# Altium footprint library 17-Relays.PcbLib: 68 footprints (part 3 of 5)
Each footprint in its own frame and in the unit in brackets; x right, y up, seen from the top. Pads: shape width x height; smd on the part's side, far side on the other; paste and mask are expansions set on the pad; w line width, h text height; cw(c..) or ccw(c..) is an arc to the next point about the centre after c.
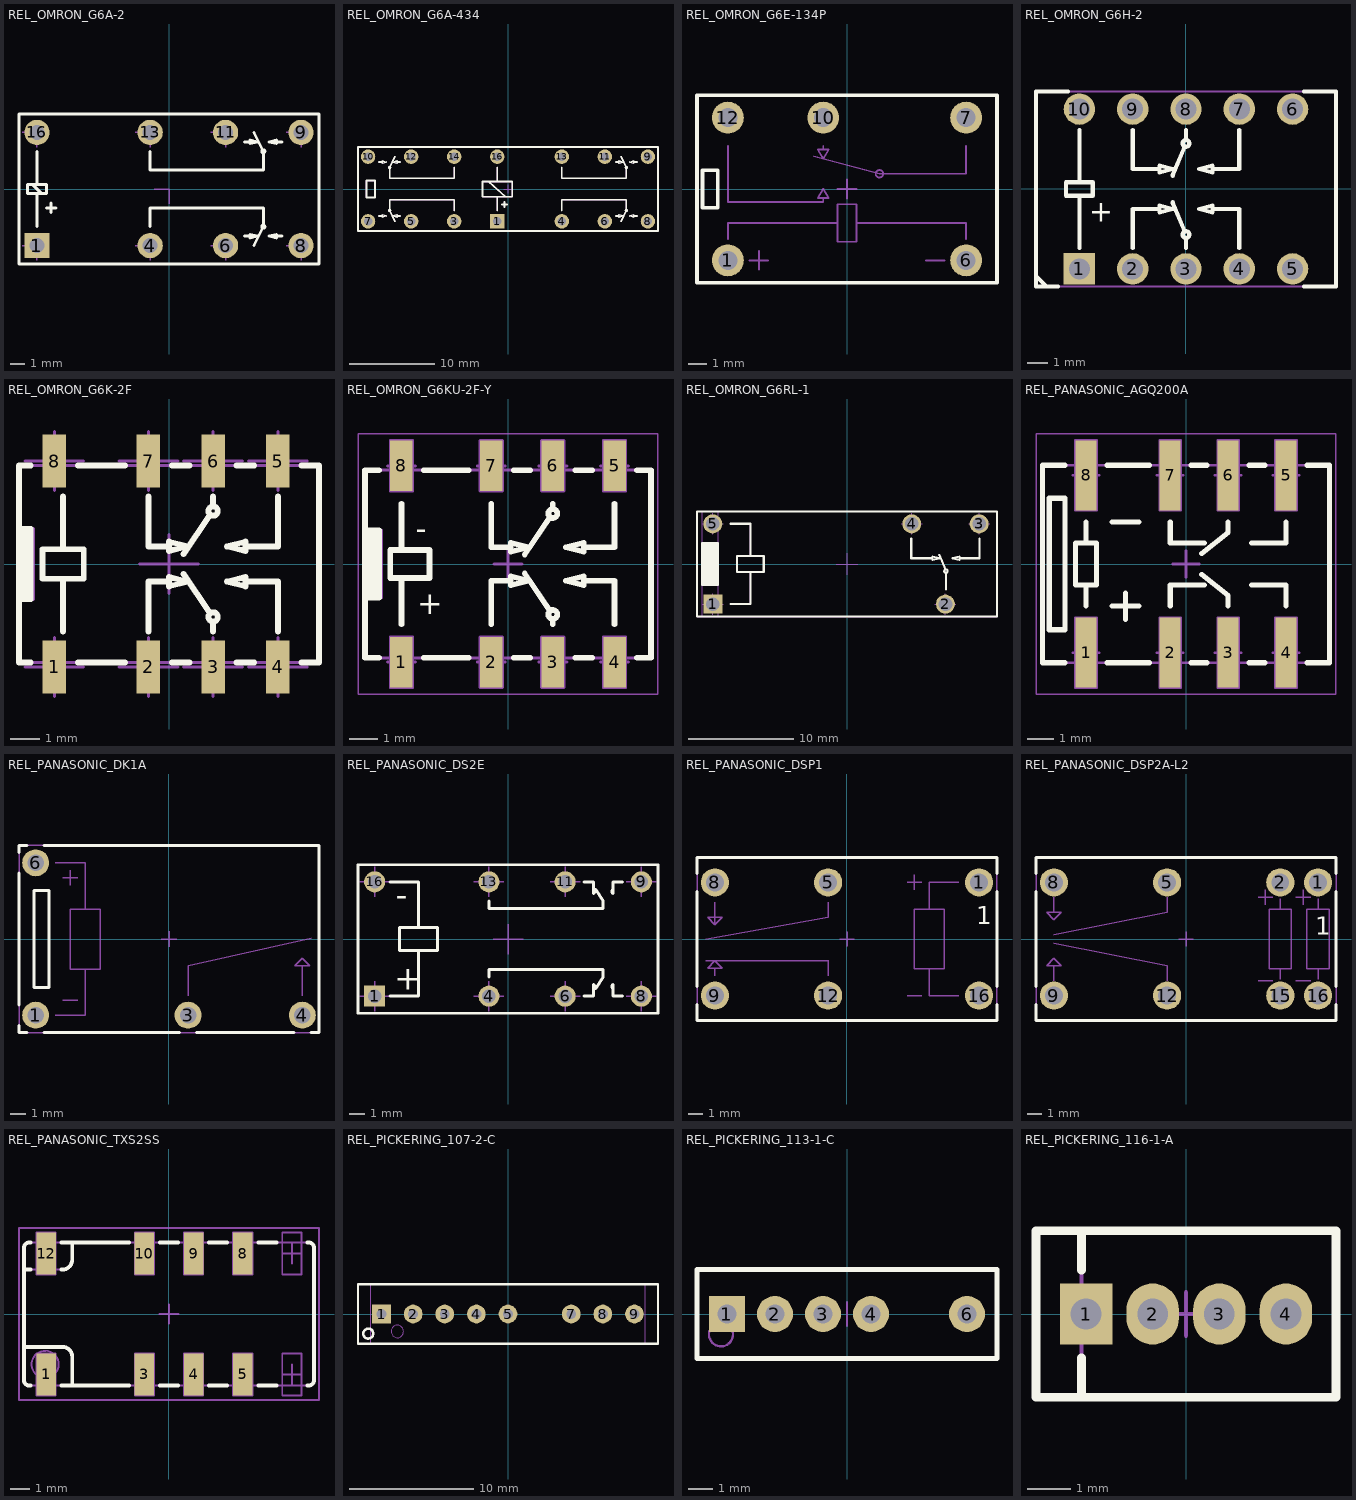
[diagram p2: the footprints below, top view; thin cyan lines are the x and y axes]

## REL_OMRON_G6A-2 [mm] "10 Leads, Row Spacing 7.62mm; Body 20.2mm x 10.1mm, OMRON_G6A-2 Serie"
height 8.4
pads (8):
  rect 1.7x1.7 hole 1: 1(-8.89,-3.81)
  round 1.7 hole 1: 4(-1.27,-3.81) 6(3.81,-3.81) 8(8.89,-3.81) 9(8.89,3.81) 11(3.81,3.81) 13(-1.27,3.81) 16(-8.89,3.81)
Top Overlay:
  circle w0.2: c6.35,2.54 r0.1
  circle w0.2: c6.35,-2.54 r0.1
  lines w0.2: -9.207,0.318 -8.572,-0.317 ; -8.89,-2.54 -8.89,-0.317 ; -8.89,0.318 -8.89,2.54 ; -8.255,-1.27 -7.62,-1.27 ; -7.938,-1.587 -7.938,-0.952 ; -1.27,-2.54 -1.27,-1.27 6.35,-1.27 6.35,-2.54 5.715,-3.81 ; -1.27,2.54 -1.27,1.27 6.35,1.27 6.35,2.54 5.715,3.81 ; 5.08,-3.175 5.465,-3.175 ; 5.08,3.175 5.465,3.175 ; 7.235,-3.175 7.62,-3.175 ; 7.235,3.175 7.62,3.175 ; -10.1,-5.05 -10.1,5.05 10.1,5.05 10.1,-5.05 -10.1,-5.05 ; -9.525,-0.317 -8.255,-0.317 -8.255,0.318 -9.525,0.318 -9.525,-0.317 ; 5.465,-3.3 5.965,-3.175 5.465,-3.05 5.465,-3.3 ; 5.465,3.05 5.465,3.3 5.965,3.175 5.465,3.05 ; 6.735,-3.175 7.235,-3.3 7.235,-3.05 6.735,-3.175 ; 6.735,3.175 7.235,3.3 7.235,3.05 6.735,3.175
Mechanical 8:
  lines w0.1: -9.89,-3.81 -8.89,-3.81 -8.89,-4.81 ; -9.89,3.81 -8.89,3.81 -8.89,2.81 ; -2.27,-3.81 -1.27,-3.81 -1.27,-4.81 ; -2.27,3.81 -1.27,3.81 -1.27,2.81 ; -1,0 0,0 0,-1 ; 2.81,-3.81 3.81,-3.81 3.81,-4.81 ; 2.81,3.81 3.81,3.81 3.81,2.81 ; 7.89,-3.81 8.89,-3.81 8.89,-4.81 ; 7.89,3.81 8.89,3.81 8.89,2.81 ; -9.19,-3.96 -9.19,-3.66 -8.59,-3.66 -8.59,-3.96 -9.19,-3.96 ; -9.19,3.66 -9.19,3.96 -8.59,3.96 -8.59,3.66 -9.19,3.66 ; -1.57,-3.96 -1.57,-3.66 -0.97,-3.66 -0.97,-3.96 -1.57,-3.96 ; -1.57,3.66 -1.57,3.96 -0.97,3.96 -0.97,3.66 -1.57,3.66 ; 3.51,-3.96 3.51,-3.66 4.11,-3.66 4.11,-3.96 3.51,-3.96 ; 3.51,3.66 3.51,3.96 4.11,3.96 4.11,3.66 3.51,3.66 ; 8.59,-3.96 8.59,-3.66 9.19,-3.66 9.19,-3.96 8.59,-3.96 ; 8.59,3.66 8.59,3.96 9.19,3.96 9.19,3.66 8.59,3.66
Mechanical 14:
  circle w0.1: c6.35,2.54 r0.1
  circle w0.1: c6.35,-2.54 r0.1
  lines w0.1: -9.207,0.318 -8.572,-0.317 ; -8.89,-2.54 -8.89,-0.317 ; -8.89,0.318 -8.89,2.54 ; -8.255,-1.27 -7.62,-1.27 ; -7.938,-1.587 -7.938,-0.952 ; -1.27,-2.54 -1.27,-1.27 6.35,-1.27 6.35,-2.54 5.715,-3.81 ; -1.27,2.54 -1.27,1.27 6.35,1.27 6.35,2.54 5.715,3.81 ; 5.08,-3.175 5.465,-3.175 ; 5.08,3.175 5.465,3.175 ; 7.235,-3.175 7.62,-3.175 ; 7.235,3.175 7.62,3.175 ; -10.1,-5.05 10.1,-5.05 10.1,5.05 -10.1,5.05 -10.1,-5.05 ; -9.525,-0.317 -8.255,-0.317 -8.255,0.318 -9.525,0.318 -9.525,-0.317 ; 5.465,-3.3 5.465,-3.05 5.965,-3.175 5.465,-3.3 ; 5.465,3.05 5.965,3.175 5.465,3.3 5.465,3.05 ; 6.735,-3.175 7.235,-3.05 7.235,-3.3 6.735,-3.175 ; 6.735,3.175 7.235,3.05 7.235,3.3 6.735,3.175
3D body "REL_OMRON_G6A-2.stp": height 8.4, standoff -3.16, extent -10.1,-5.05 10.1,5.05

## REL_OMRON_G6A-434 [mm] "14 Leads, Row Spacing 7.62mm; Body 35.4mm x 10.1mm, OMRON G6A-434 Case"
height 8.4
pads (14):
  rect 1.7x1.7 hole 1: 1(-1.27,-3.81)
  round 1.7 hole 1: 3(-6.35,-3.81) 4(6.35,-3.81) 5(-11.43,-3.81) 6(11.43,-3.81) 7(-16.51,-3.81) 8(16.51,-3.81) 9(16.51,3.81) 10(-16.51,3.81) 11(11.43,3.81) 12(-11.43,3.81) 13(6.35,3.81) 14(-6.35,3.81) 16(-1.27,3.81)
Top Overlay:
  circle w0.2: c-13.97,2.54 r0.1
  circle w0.2: c-13.97,-2.54 r0.1
  circle w0.2: c13.97,2.54 r0.1
  circle w0.2: c13.97,-2.54 r0.1
  lines w0.2: -15.24,-3.175 -14.855,-3.175 ; -15.24,3.175 -14.855,3.175 ; -13.335,-3.81 -13.97,-2.54 -13.97,-1.27 -6.35,-1.27 -6.35,-2.54 ; -13.335,3.81 -13.97,2.54 -13.97,1.27 -6.35,1.27 -6.35,2.54 ; -13.085,-3.175 -12.7,-3.175 ; -13.085,3.175 -12.7,3.175 ; -2.275,0.875 -0.289,-0.916 ; -1.27,-2.54 -1.27,-0.9 ; -1.27,0.875 -1.27,2.54 ; -0.735,-1.82 -0.1,-1.82 ; -0.417,-2.137 -0.417,-1.502 ; 6.35,-2.54 6.35,-1.27 13.97,-1.27 13.97,-2.54 13.335,-3.81 ; 6.35,2.54 6.35,1.27 13.97,1.27 13.97,2.54 13.335,3.81 ; 12.7,-3.175 13.085,-3.175 ; 12.7,3.175 13.085,3.175 ; 14.855,-3.175 15.24,-3.175 ; 14.855,3.175 15.24,3.175 ; -17.7,-4.95 17.7,-4.95 17.7,4.95 -17.7,4.95 -17.7,-4.95 ; -16.7,-1 -15.7,-1 -15.7,1 -16.7,1 -16.7,-1 ; -14.855,-3.3 -14.355,-3.175 -14.855,-3.05 -14.855,-3.3 ; -14.855,3.05 -14.855,3.3 -14.355,3.175 -14.855,3.05 ; -13.585,-3.175 -13.085,-3.3 -13.085,-3.05 -13.585,-3.175 ; -13.585,3.175 -13.085,3.3 -13.085,3.05 -13.585,3.175 ; -3,-0.9 0.5,-0.9 0.5,0.875 -3,0.875 -3,-0.9 ; 13.085,-3.3 13.585,-3.175 13.085,-3.05 13.085,-3.3 ; 13.085,3.05 13.085,3.3 13.585,3.175 13.085,3.05 ; 14.355,-3.175 14.855,-3.3 14.855,-3.05 14.355,-3.175 ; 14.355,3.175 14.855,3.3 14.855,3.05 14.355,3.175
Mechanical 8:
  lines w0.1: -17.01,-3.81 -16.51,-3.81 ; -17.01,3.81 -16.51,3.81 ; -16.51,-4.31 -16.51,-3.81 ; -16.51,-3.31 -16.51,-3.81 ; -16.51,3.31 -16.51,3.81 ; -16.51,4.31 -16.51,3.81 ; -16.01,-3.81 -16.51,-3.81 ; -16.01,3.81 -16.51,3.81 ; -11.93,-3.81 -11.43,-3.81 ; -11.93,3.81 -11.43,3.81 ; -11.43,-4.31 -11.43,-3.81 ; -11.43,-3.31 -11.43,-3.81 ; -11.43,3.31 -11.43,3.81 ; -11.43,4.31 -11.43,3.81 ; -10.93,-3.81 -11.43,-3.81 ; -10.93,3.81 -11.43,3.81 ; -6.85,-3.81 -6.35,-3.81 ; -6.85,3.81 -6.35,3.81 ; -6.35,-4.31 -6.35,-3.81 ; -6.35,-3.31 -6.35,-3.81 ; -6.35,3.31 -6.35,3.81 ; -6.35,4.31 -6.35,3.81 ; -5.85,-3.81 -6.35,-3.81 ; -5.85,3.81 -6.35,3.81 ; -1.77,-3.81 -1.27,-3.81 ; -1.77,3.81 -1.27,3.81 ; -1.27,-4.31 -1.27,-3.81 ; -1.27,-3.31 -1.27,-3.81 ; -1.27,3.31 -1.27,3.81 ; -1.27,4.31 -1.27,3.81 ; -0.77,-3.81 -1.27,-3.81 ; -0.77,3.81 -1.27,3.81 ; -0.5,0 0,0 ; 0,-0.5 0,0 ; 0,0.5 0,0 ; 0.5,0 0,0 ; 5.85,-3.81 6.35,-3.81 ; 5.85,3.81 6.35,3.81 ; 6.35,-4.31 6.35,-3.81 ; 6.35,-3.31 6.35,-3.81 ; 6.35,3.31 6.35,3.81 ; 6.35,4.31 6.35,3.81 ; 6.85,-3.81 6.35,-3.81 ; 6.85,3.81 6.35,3.81 ; 10.93,-3.81 11.43,-3.81 ; 10.93,3.81 11.43,3.81 ; 11.43,-4.31 11.43,-3.81 ; 11.43,-3.31 11.43,-3.81 ; 11.43,3.31 11.43,3.81 ; 11.43,4.31 11.43,3.81 ; 11.93,-3.81 11.43,-3.81 ; 11.93,3.81 11.43,3.81 ; 16.01,-3.81 16.51,-3.81 ; 16.01,3.81 16.51,3.81 ; 16.51,-4.31 16.51,-3.81 ; 16.51,-3.31 16.51,-3.81 ; 16.51,3.31 16.51,3.81 ; 16.51,4.31 16.51,3.81 ; 17.01,-3.81 16.51,-3.81 ; 17.01,3.81 16.51,3.81
Mechanical 14:
  circle w0.1: c13.97,-2.54 r0.1
  circle w0.1: c13.97,2.54 r0.1
  circle w0.1: c-13.97,-2.54 r0.1
  circle w0.1: c-13.97,2.54 r0.1
  lines w0.1: -15.24,-3.175 -14.855,-3.175 ; -15.24,3.175 -14.855,3.175 ; -13.335,-3.81 -13.97,-2.54 -13.97,-1.27 -6.35,-1.27 -6.35,-2.54 ; -13.335,3.81 -13.97,2.54 -13.97,1.27 -6.35,1.27 -6.35,2.54 ; -13.085,-3.175 -12.7,-3.175 ; -13.085,3.175 -12.7,3.175 ; -2.275,0.875 -0.289,-0.916 ; -1.27,-2.54 -1.27,-0.9 ; -1.27,0.875 -1.27,2.54 ; -0.735,-1.82 -0.1,-1.82 ; -0.417,-2.137 -0.417,-1.502 ; 6.35,-2.54 6.35,-1.27 13.97,-1.27 13.97,-2.54 13.335,-3.81 ; 6.35,2.54 6.35,1.27 13.97,1.27 13.97,2.54 13.335,3.81 ; 12.7,-3.175 13.085,-3.175 ; 12.7,3.175 13.085,3.175 ; 14.855,-3.175 15.24,-3.175 ; 14.855,3.175 15.24,3.175 ; -17.7,-4.95 17.7,-4.95 17.7,4.95 -17.7,4.95 -17.7,-4.95 ; -16.7,-1 -15.7,-1 -15.7,1 -16.7,1 -16.7,-1 ; -14.855,-3.3 -14.855,-3.05 -14.355,-3.175 -14.855,-3.3 ; -14.855,3.05 -14.355,3.175 -14.855,3.3 -14.855,3.05 ; -13.585,-3.175 -13.085,-3.05 -13.085,-3.3 -13.585,-3.175 ; -13.585,3.175 -13.085,3.05 -13.085,3.3 -13.585,3.175 ; -3,-0.9 -3,0.875 0.5,0.875 0.5,-0.9 -3,-0.9 ; 13.085,-3.3 13.085,-3.05 13.585,-3.175 13.085,-3.3 ; 13.085,3.05 13.585,3.175 13.085,3.3 13.085,3.05 ; 14.355,-3.175 14.855,-3.05 14.855,-3.3 14.355,-3.175 ; 14.355,3.175 14.855,3.05 14.855,3.3 14.355,3.175
3D body "REL_OMRON_G6A-434.stp": height 8.2, standoff -2.52, extent -17.7,-4.95 17.7,4.95

## REL_OMRON_G6E-134P [mm] "5 Leads, Row Spacing 7.62mm; Body 16mm x 10mm, OMRON G6E Serie"
height 8
pads (5):
  round 1.7 hole 1: 1(-6.35,-3.81) 6(6.35,-3.81) 7(6.35,3.81) 10(-1.27,3.81) 12(-6.35,3.81)
Top Overlay:
  lines w0.2: -8,-5 8,-5 8,5 -8,5 -8,-5 ; -7.7,-1 -6.9,-1 -6.9,1 -7.7,1 -7.7,-1
Mechanical 8:
  lines w0.1: -6.85,-3.81 -6.35,-3.81 ; -6.85,3.81 -6.35,3.81 ; -6.35,-4.31 -6.35,-3.81 ; -6.35,-3.31 -6.35,-3.81 ; -6.35,3.31 -6.35,3.81 ; -6.35,4.31 -6.35,3.81 ; -5.85,-3.81 -6.35,-3.81 ; -5.85,3.81 -6.35,3.81 ; -1.77,3.81 -1.27,3.81 ; -1.27,3.31 -1.27,3.81 ; -1.27,4.31 -1.27,3.81 ; -0.77,3.81 -1.27,3.81 ; -0.5,0 0,0 ; 0,-0.5 0,0 ; 0,0.5 0,0 ; 0.5,0 0,0 ; 5.85,-3.81 6.35,-3.81 ; 5.85,3.81 6.35,3.81 ; 6.35,-4.31 6.35,-3.81 ; 6.35,-3.31 6.35,-3.81 ; 6.35,3.31 6.35,3.81 ; 6.35,4.31 6.35,3.81 ; 6.85,-3.81 6.35,-3.81 ; 6.85,3.81 6.35,3.81
Mechanical 14:
  circle w0.1: c1.73,0.81 r0.2
  lines w0.1: -6.35,-2.66 -6.35,-1.81 -0.5,-1.81 ; -6.35,2.31 -6.35,-0.69 -1.27,-0.69 -1.27,-0.49 ; -5.2,-3.81 -4.7,-3.81 ; -4.7,-4.31 -4.7,-3.81 ; -4.7,-3.31 -4.7,-3.81 ; -4.2,-3.81 -4.7,-3.81 ; -1.772,1.744 1.73,0.81 6.35,0.81 6.35,2.31 ; -1.27,2.11 -1.27,2.31 ; 0.5,-1.81 6.35,-1.81 6.35,-2.66 ; 4.2,-3.81 5.2,-3.81 ; -8,-5 -8,5 8,5 8,-5 -8,-5 ; -7.7,-1 -6.9,-1 -6.9,1 -7.7,1 -7.7,-1 ; -1.559,-0.49 -0.981,-0.49 -1.27,0.01 -1.559,-0.49 ; -1.559,2.11 -0.981,2.11 -1.27,1.61 -1.559,2.11 ; -0.5,-2.81 0.5,-2.81 0.5,-0.81 -0.5,-0.81 -0.5,-2.81
3D body "REL_OMRON_G6E-134P.stp": height 8, standoff -3.5, extent -8,-5 8,5

## REL_OMRON_G6H-2 [mm] "10 Leads, Row Spacing 7.62 mm; Body 14.3mm x 9.3mm, OMRON_G6H-2 Serie"
height 5.4
pads (10):
  rect 1.5x1.5 hole 1: 1(-5.08,-3.81)
  round 1.5 hole 1: 2(-2.54,-3.81) 3(0,-3.81) 4(2.54,-3.81) 5(5.08,-3.81) 6(5.08,3.81) 7(2.54,3.81) 8(0,3.81) 9(-2.54,3.81) 10(-5.08,3.81)
Top Overlay:
  circle w0.2: c0,-2.175 r0.159
  circle w0.2: c0,2.175 r0.159
  lines w0.2: -7.15,-4.15 -6.65,-4.65 ; -6.096,-4.65 -7.15,-4.65 -7.15,4.65 -5.623,4.65 ; -5.08,-2.81 -5.08,-0.318 ; -5.08,0.318 -5.08,2.81 ; -2.54,-2.81 -2.54,-0.953 -1.27,-0.953 ; -2.54,2.81 -2.54,0.953 -1.27,0.953 ; -0.635,-0.635 -0.061,-2.028 ; -0.635,0.635 -0.061,2.028 ; 0,-2.81 0,-2.334 ; 0,2.334 0,2.81 ; 1.27,-0.953 2.54,-0.953 2.54,-2.81 ; 1.27,0.953 2.54,0.953 2.54,2.81 ; 5.623,-4.65 7.15,-4.65 7.15,4.65 5.623,4.65 ; -5.715,-0.318 -4.445,-0.318 -4.445,0.318 -5.715,0.318 -5.715,-0.318 ; -1.27,-1.111 -0.635,-0.953 -1.27,-0.794 -1.27,-1.111 ; -1.27,0.794 -0.635,0.953 -1.27,1.111 -1.27,0.794 ; 0.635,-0.953 1.27,-1.111 1.27,-0.794 0.635,-0.953 ; 0.635,0.953 1.27,1.111 1.27,0.794 0.635,0.953
  text "+" at -4.614,-1.558 h1
Mechanical 14:
  circle w0.1: c0,-2.175 r0.159
  circle w0.1: c0,2.175 r0.159
  lines w0.1: -5.08,-2.81 -5.08,-0.318 ; -5.08,0.318 -5.08,2.81 ; -2.54,-2.81 -2.54,-0.953 -1.27,-0.953 ; -2.54,2.81 -2.54,0.953 -1.27,0.953 ; -0.635,-0.635 -0.061,-2.028 ; -0.635,0.635 -0.061,2.028 ; 0,-2.81 0,-2.334 ; 0,2.334 0,2.81 ; 1.27,-0.953 2.54,-0.953 2.54,-2.81 ; 1.27,0.953 2.54,0.953 2.54,2.81 ; -7.15,-4.65 -7.15,4.65 7.15,4.65 7.15,-4.65 -7.15,-4.65 ; -5.715,-0.318 -4.445,-0.318 -4.445,0.318 -5.715,0.318 -5.715,-0.318 ; -1.27,-1.111 -0.635,-0.953 -1.27,-0.794 -1.27,-1.111 ; -1.27,0.794 -0.635,0.953 -1.27,1.111 -1.27,0.794 ; 0.635,-0.953 1.27,-1.111 1.27,-0.794 0.635,-0.953 ; 0.635,0.953 1.27,1.111 1.27,0.794 0.635,0.953
  text "+" at -4.614,-1.558 h1
3D body "REL_OMRON_G6H-2.stp": height 5.4, standoff -3.5, extent -7.15,-4.65 7.15,4.65
3D body: height 0, standoff -3.1, extent -5.33,-3.935 -4.83,-3.685
3D body: height 0, standoff -3.1, extent -2.79,-3.935 -2.29,-3.685
3D body: height 0, standoff -3.1, extent -0.25,-3.935 0.25,-3.685
3D body: height 0, standoff -3.1, extent 2.29,-3.935 2.79,-3.685
3D body: height 0, standoff -3.1, extent 4.83,-3.935 5.33,-3.685
3D body: height 0, standoff -3.1, extent 4.83,3.685 5.33,3.935
3D body: height 0, standoff -3.1, extent 2.29,3.685 2.79,3.935
3D body: height 0, standoff -3.1, extent -0.25,3.685 0.25,3.935
3D body: height 0, standoff -3.1, extent -2.79,3.685 -2.29,3.935
3D body: height 0, standoff -3.1, extent -5.33,3.685 -4.83,3.935

## REL_OMRON_G6K-2F [mm] "SMD Relay,  Body 10.2mm x 6.7mm, OMRON_G6K-2F"
height 5.4
pads (8):
  rect 0.8x1.8 smd: 1(-3.9,-3.5) 2(-0.7,-3.5) 3(1.5,-3.5) 4(3.7,-3.5) 5(3.7,3.5) 6(1.5,3.5) 7(-0.7,3.5) 8(-3.9,3.5)
Top Overlay:
  circle w0.2: c1.5,-1.8 r0.159
  circle w0.2: c1.5,1.8 r0.159
  lines w0.2: -5.1,-1.2 -4.7,-1.2 -4.7,1.2 -5.1,1.2 ; -5,-1.2 -5,1.2 ; -4.9,-1.2 -4.9,1.2 ; -4.8,-1.2 -4.8,1.2 ; -4.7,-3.35 -5.1,-3.35 -5.1,3.35 -4.7,3.35 ; -3.6,-2.3 -3.6,-0.5 ; -3.6,0.5 -3.6,2.3 ; -3.1,-3.35 -1.5,-3.35 ; -3.1,3.35 -1.5,3.35 ; -0.7,-2.3 -0.7,-0.6 0,-0.6 ; -0.7,2.3 -0.7,0.6 0,0.6 ; 0.1,-3.35 0.7,-3.35 ; 0.1,3.35 0.7,3.35 ; 0.493,-0.338 1.4,-1.675 ; 0.493,0.338 1.4,1.675 ; 1.5,-2.3 1.5,-2 ; 1.5,2 1.5,2.3 ; 2.3,-3.35 2.9,-3.35 ; 2.3,3.35 2.9,3.35 ; 2.6,-0.6 3.7,-0.6 3.7,-2.3 ; 2.6,0.6 3.7,0.6 3.7,2.3 ; 4.5,-3.35 5.1,-3.35 5.1,3.35 4.5,3.35 ; -4.3,-0.5 -2.9,-0.5 -2.9,0.5 -4.3,0.5 -4.3,-0.5 ; 0,-0.759 0,-0.441 0.635,-0.6 0,-0.759 ; 0,0.441 0.635,0.6 0,0.759 0,0.441 ; 1.965,-0.6 2.6,-0.441 2.6,-0.759 1.965,-0.6 ; 1.965,0.6 2.6,0.759 2.6,0.441 1.965,0.6
Mechanical 8:
  lines w0.1: -4.9,-3.5 -3.9,-3.5 ; -4.9,3.5 -3.9,3.5 ; -3.9,-4.5 -3.9,-3.5 ; -3.9,-2.5 -3.9,-3.5 ; -3.9,2.5 -3.9,3.5 ; -3.9,4.5 -3.9,3.5 ; -2.9,-3.5 -3.9,-3.5 ; -2.9,3.5 -3.9,3.5 ; -1.7,-3.5 -0.7,-3.5 ; -1.7,3.5 -0.7,3.5 ; -1,0 0,0 ; -0.7,-4.5 -0.7,-3.5 ; -0.7,-2.5 -0.7,-3.5 ; -0.7,2.5 -0.7,3.5 ; -0.7,4.5 -0.7,3.5 ; 0,-1 0,0 ; 0,1 0,0 ; 0.3,-3.5 -0.7,-3.5 ; 0.3,3.5 -0.7,3.5 ; 0.5,-3.5 1.5,-3.5 ; 0.5,3.5 1.5,3.5 ; 1,0 0,0 ; 1.5,-4.5 1.5,-3.5 ; 1.5,-2.5 1.5,-3.5 ; 1.5,2.5 1.5,3.5 ; 1.5,4.5 1.5,3.5 ; 2.5,-3.5 1.5,-3.5 ; 2.5,3.5 1.5,3.5 ; 2.7,-3.5 3.7,-3.5 ; 2.7,3.5 3.7,3.5 ; 3.7,-4.5 3.7,-3.5 ; 3.7,-2.5 3.7,-3.5 ; 3.7,2.5 3.7,3.5 ; 3.7,4.5 3.7,3.5 ; 4.7,-3.5 3.7,-3.5 ; 4.7,3.5 3.7,3.5
Mechanical 14:
  circle w0.1: c1.5,-1.8 r0.159
  circle w0.1: c1.5,1.8 r0.159
  lines w0.1: -5.1,-1.2 -4.6,-1.2 -4.6,1.2 -5.1,1.2 ; -5,-1.2 -5,1.2 ; -4.9,-1.2 -4.9,1.2 ; -4.8,-1.2 -4.8,1.2 ; -4.7,-1.2 -4.7,1.2 ; -3.6,-2.3 -3.6,-0.5 ; -3.6,0.5 -3.6,2.3 ; -0.7,-2.3 -0.7,-0.6 0,-0.6 ; -0.7,2.3 -0.7,0.6 0,0.6 ; 0.493,-0.338 1.4,-1.675 ; 0.493,0.338 1.4,1.675 ; 1.5,-2.3 1.5,-2 ; 1.5,2 1.5,2.3 ; 2.6,-0.6 3.7,-0.6 3.7,-2.3 ; 2.6,0.6 3.7,0.6 3.7,2.3 ; -5.1,-3.35 5.1,-3.35 5.1,3.35 -5.1,3.35 -5.1,-3.35 ; -4.3,-0.5 -2.9,-0.5 -2.9,0.5 -4.3,0.5 -4.3,-0.5 ; 0,-0.759 0,-0.441 0.635,-0.6 0,-0.759 ; 0,0.441 0.635,0.6 0,0.759 0,0.441 ; 1.965,-0.6 2.6,-0.441 2.6,-0.759 1.965,-0.6 ; 1.965,0.6 2.6,0.759 2.6,0.441 1.965,0.6
3D body "REL_OMRON_G6K-2F.stp": height 5.4, standoff 0, extent -5.1,-3.9 5.1,3.9

## REL_OMRON_G6KU-2F-Y [mm] "SMD Relay,  Body 10.2mm x 6.7mm, OMRON_G6KU-2F-Y"
height 5.4
pads (8):
  rect 0.8x1.8 smd: 1(-3.8,-3.5) 2(-0.6,-3.5) 3(1.6,-3.5) 4(3.8,-3.5) 5(3.8,3.5) 6(1.6,3.5) 7(-0.6,3.5) 8(-3.8,3.5)
Top Overlay:
  circle w0.2: c1.6,-1.8 r0.159
  circle w0.2: c1.6,1.8 r0.159
  lines w0.2: -5,-1.2 -4.6,-1.2 -4.6,1.2 -5,1.2 ; -4.9,-1.2 -4.9,1.2 ; -4.8,-1.2 -4.8,1.2 ; -4.7,-1.2 -4.7,1.2 ; -4.6,-3.35 -5.1,-3.35 -5.1,3.35 -4.6,3.35 ; -3.8,-2.15 -3.8,-0.6 ; -3.8,0.6 -3.8,2.15 ; -3,-3.35 -1.4,-3.35 ; -3,3.35 -1.4,3.35 ; -0.6,-2.15 -0.6,-0.6 0.1,-0.6 ; -0.6,2.15 -0.6,0.6 0.1,0.6 ; 0.2,-3.35 0.8,-3.35 ; 0.2,3.35 0.8,3.35 ; 0.593,-0.338 1.5,-1.675 ; 0.593,0.338 1.5,1.675 ; 1.6,-2.15 1.6,-2 ; 1.6,2 1.6,2.15 ; 2.4,-3.35 3,-3.35 ; 2.4,3.35 3,3.35 ; 2.7,-0.6 3.8,-0.6 3.8,-2.15 ; 2.7,0.6 3.8,0.6 3.8,2.15 ; 4.6,-3.35 5.1,-3.35 5.1,3.35 4.6,3.35 ; -4.2,-0.5 -2.8,-0.5 -2.8,0.5 -4.2,0.5 -4.2,-0.5 ; 0.1,-0.759 0.1,-0.441 0.735,-0.6 0.1,-0.759 ; 0.1,0.441 0.735,0.6 0.1,0.759 0.1,0.441 ; 2.065,-0.6 2.7,-0.441 2.7,-0.759 2.065,-0.6 ; 2.065,0.6 2.7,0.759 2.7,0.441 2.065,0.6
  text "+" at -3.234,-1.785 h0.8
  text "-" at -3.284,0.89 h0.8
Mechanical 8:
  lines w0.1: -4.3,-3.5 -3.8,-3.5 ; -4.3,3.5 -3.8,3.5 ; -3.8,-4 -3.8,-3.5 ; -3.8,-3 -3.8,-3.5 ; -3.8,3 -3.8,3.5 ; -3.8,4 -3.8,3.5 ; -3.3,-3.5 -3.8,-3.5 ; -3.3,3.5 -3.8,3.5 ; -1.1,-3.5 -0.6,-3.5 ; -1.1,3.5 -0.6,3.5 ; -0.6,-4 -0.6,-3.5 ; -0.6,-3 -0.6,-3.5 ; -0.6,3 -0.6,3.5 ; -0.6,4 -0.6,3.5 ; -0.5,0 0,0 ; -0.1,-3.5 -0.6,-3.5 ; -0.1,3.5 -0.6,3.5 ; 0,-0.5 0,0 ; 0,0.5 0,0 ; 0.5,0 0,0 ; 1.1,-3.5 1.6,-3.5 ; 1.1,3.5 1.6,3.5 ; 1.6,-4 1.6,-3.5 ; 1.6,-3 1.6,-3.5 ; 1.6,3 1.6,3.5 ; 1.6,4 1.6,3.5 ; 2.1,-3.5 1.6,-3.5 ; 2.1,3.5 1.6,3.5 ; 3.3,-3.5 3.8,-3.5 ; 3.3,3.5 3.8,3.5 ; 3.8,-4 3.8,-3.5 ; 3.8,-3 3.8,-3.5 ; 3.8,3 3.8,3.5 ; 3.8,4 3.8,3.5 ; 4.3,-3.5 3.8,-3.5 ; 4.3,3.5 3.8,3.5 ; -4.2,-4.4 -3.4,-4.4 -3.4,-2.6 -4.2,-2.6 -4.2,-4.4 ; -4.2,2.6 -3.4,2.6 -3.4,4.4 -4.2,4.4 -4.2,2.6 ; -1,-4.4 -0.2,-4.4 -0.2,-2.6 -1,-2.6 -1,-4.4 ; -1,2.6 -0.2,2.6 -0.2,4.4 -1,4.4 -1,2.6 ; 1.2,-4.4 2,-4.4 2,-2.6 1.2,-2.6 1.2,-4.4 ; 1.2,2.6 2,2.6 2,4.4 1.2,4.4 1.2,2.6 ; 3.4,-4.4 4.2,-4.4 4.2,-2.6 3.4,-2.6 3.4,-4.4 ; 3.4,2.6 4.2,2.6 4.2,4.4 3.4,4.4 3.4,2.6
Mechanical 14:
  circle w0.1: c1.6,-1.8 r0.159
  circle w0.1: c1.6,1.8 r0.159
  lines w0.1: -5,-1.2 -4.5,-1.2 -4.5,1.2 -5,1.2 ; -4.9,-1.2 -4.9,1.2 ; -4.8,-1.2 -4.8,1.2 ; -4.7,-1.2 -4.7,1.2 ; -4.6,-1.2 -4.6,1.2 ; -3.8,-2.15 -3.8,-0.6 ; -3.8,0.6 -3.8,2.15 ; -0.6,-2.15 -0.6,-0.6 0.1,-0.6 ; -0.6,2.15 -0.6,0.6 0.1,0.6 ; 0.593,-0.338 1.5,-1.675 ; 0.593,0.338 1.5,1.675 ; 1.6,-2.15 1.6,-2 ; 1.6,2 1.6,2.15 ; 2.7,-0.6 3.8,-0.6 3.8,-2.15 ; 2.7,0.6 3.8,0.6 3.8,2.15 ; -5.1,-3.35 5.1,-3.35 5.1,3.35 -5.1,3.35 -5.1,-3.35 ; -4.2,-0.5 -2.8,-0.5 -2.8,0.5 -4.2,0.5 -4.2,-0.5 ; 0.1,-0.759 0.1,-0.441 0.735,-0.6 0.1,-0.759 ; 0.1,0.441 0.735,0.6 0.1,0.759 0.1,0.441 ; 2.065,-0.6 2.7,-0.441 2.7,-0.759 2.065,-0.6 ; 2.065,0.6 2.7,0.759 2.7,0.441 2.065,0.6
  text "+" at -3.234,-1.785 h0.8
  text "-" at -3.284,0.89 h0.8
Mechanical 15:
  lines w0.05: -5.35,-4.65 -5.35,4.65 5.35,4.65 5.35,-4.65 -5.35,-4.65
3D body "REL_OMRON_G6KU-2F-Y.stp": height 5.4, standoff 0, extent -5.1,-3.9 5.1,3.9

## REL_OMRON_G6RL-1 [mm] "5 Leads, Row Spacing 7.62 mm; Body 28.5mm x 10mm, OMRON_G6RL-1 Serie"
height 12.3
pads (5):
  rect 1.8x1.8 hole 1.3: 1(-12.75,-3.81)
  round 1.8 hole 1.3: 2(9.35,-3.81) 3(12.55,3.81) 4(6.15,3.81) 5(-12.75,3.81)
Top Overlay:
  circle w0.2: c9.4,-0.675 r0.159
  lines w0.2: -13.55,-2 -13.55,2 ; -13.35,-2 -13.35,2 ; -13.15,-2 -13.15,2 ; -12.95,-2 -12.95,2 ; -12.75,-2 -12.75,2 ; -12.55,-2 -12.55,2 ; -12.35,-2 -12.35,2 ; -11.084,-3.8 -9.179,-3.8 -9.179,-0.752 ; -11.084,3.82 -9.179,3.82 -9.179,0.772 ; 6.1,2.4 6.1,0.547 8.13,0.547 ; 8.765,0.865 9.339,-0.528 ; 9.4,-2.4 9.4,-0.834 ; 10.67,0.547 12.6,0.547 12.6,2.4 ; -14.25,-5 -14.25,5 14.25,5 14.25,-5 -14.25,-5 ; -13.75,-2 -12.25,-2 -12.25,2 -13.75,2 -13.75,-2 ; -10.449,-0.752 -10.449,0.772 -7.909,0.772 -7.909,-0.752 -10.449,-0.752 ; 8.13,0.389 8.13,0.706 8.765,0.547 8.13,0.389 ; 10.035,0.547 10.67,0.389 10.67,0.706 10.035,0.547
Mechanical 8:
  lines w0.1: -13.75,-3.81 -12.75,-3.81 ; -13.75,3.81 -12.75,3.81 ; -12.75,-4.81 -12.75,-3.81 ; -12.75,-2.81 -12.75,-3.81 ; -12.75,2.81 -12.75,3.81 ; -12.75,4.81 -12.75,3.81 ; -11.75,-3.81 -12.75,-3.81 ; -11.75,3.81 -12.75,3.81 ; -1,0 0,0 ; 0,-1 0,0 ; 0,1 0,0 ; 1,0 0,0 ; 5.15,3.81 6.15,3.81 ; 6.15,2.81 6.15,3.81 ; 6.15,4.81 6.15,3.81 ; 7.15,3.81 6.15,3.81 ; 8.35,-3.81 9.35,-3.81 ; 9.35,-4.81 9.35,-3.81 ; 9.35,-2.81 9.35,-3.81 ; 10.35,-3.81 9.35,-3.81 ; 11.55,3.81 12.55,3.81 ; 12.55,2.81 12.55,3.81 ; 12.55,4.81 12.55,3.81 ; 13.55,3.81 12.55,3.81
Mechanical 14:
  lines w0.1: -13.75,-5 -13.75,5 ; -12.25,-5 -12.25,5 ; -11.084,-3.8 -9.179,-3.8 -9.179,-0.752 ; -11.084,3.82 -9.179,3.82 -9.179,0.772 ; -14.25,-5 -14.25,5 14.25,5 14.25,-5 -14.25,-5 ; -10.449,-0.752 -10.449,0.772 -7.909,0.772 -7.909,-0.752 -10.449,-0.752
3D body "REL_OMRON_G6RL-1.stp": height 12.3, standoff -3.2, extent -14.25,-5 14.25,5

## REL_PANASONIC_AGQ200A [mm] "8 Leads Single Side Stable Relay,PANASONIC GQ Serie, Body 10.6mm x 7.2mm"
height 5.4
pads (8):
  rect 0.8x2.66 smd: 1(-3.8,-3.37) 2(-0.6,-3.37) 3(1.6,-3.37) 4(3.8,-3.37) 5(3.8,3.37) 6(1.6,3.37) 7(-0.6,3.37) 8(-3.8,3.37)
Top Overlay:
  lines w0.2: -4.6,-3.75 -5.45,-3.75 -5.45,3.75 -4.6,3.75 ; -3.8,-1.6 -3.8,-0.8 ; -3.8,0.8 -3.8,1.6 ; -3,-3.75 -1.4,-3.75 ; -3,3.75 -1.4,3.75 ; -2.8,-1.6 -1.8,-1.6 ; -2.8,1.6 -1.8,1.6 ; -2.3,-2.1 -2.3,-1.1 ; -0.6,-1.6 -0.6,-0.8 0.7,-0.8 ; -0.6,1.6 -0.6,0.8 0.7,0.8 ; 0.2,-3.75 0.8,-3.75 ; 0.2,3.75 0.8,3.75 ; 0.6,-0.4 1.6,-1.2 1.6,-1.6 ; 0.6,0.4 1.6,1.2 1.6,1.6 ; 2.4,-3.75 3,-3.75 ; 2.4,3.75 3,3.75 ; 2.5,-0.8 3.8,-0.8 3.8,-1.6 ; 2.5,0.8 3.8,0.8 3.8,1.6 ; 4.6,-3.75 5.45,-3.75 5.45,3.75 4.6,3.75 ; -5.2,-2.5 -5.2,2.5 -4.6,2.5 -4.6,-2.5 -5.2,-2.5 ; -4.2,-0.8 -3.4,-0.8 -3.4,0.8 -4.2,0.8 -4.2,-0.8
Mechanical 8:
  lines w0.1: -4.3,-3.37 -3.8,-3.37 ; -4.3,3.37 -3.8,3.37 ; -3.8,-3.87 -3.8,-3.37 ; -3.8,-2.87 -3.8,-3.37 ; -3.8,2.87 -3.8,3.37 ; -3.8,3.87 -3.8,3.37 ; -3.3,-3.37 -3.8,-3.37 ; -3.3,3.37 -3.8,3.37 ; -1.1,-3.37 -0.6,-3.37 ; -1.1,3.37 -0.6,3.37 ; -0.6,-3.87 -0.6,-3.37 ; -0.6,-2.87 -0.6,-3.37 ; -0.6,2.87 -0.6,3.37 ; -0.6,3.87 -0.6,3.37 ; -0.5,0 0,0 ; -0.1,-3.37 -0.6,-3.37 ; -0.1,3.37 -0.6,3.37 ; 0,-0.5 0,0 ; 0,0.5 0,0 ; 0.5,0 0,0 ; 1.1,-3.37 1.6,-3.37 ; 1.1,3.37 1.6,3.37 ; 1.6,-3.87 1.6,-3.37 ; 1.6,-2.87 1.6,-3.37 ; 1.6,2.87 1.6,3.37 ; 1.6,3.87 1.6,3.37 ; 2.1,-3.37 1.6,-3.37 ; 2.1,3.37 1.6,3.37 ; 3.3,-3.37 3.8,-3.37 ; 3.3,3.37 3.8,3.37 ; 3.8,-3.87 3.8,-3.37 ; 3.8,-2.87 3.8,-3.37 ; 3.8,2.87 3.8,3.37 ; 3.8,3.87 3.8,3.37 ; 4.3,-3.37 3.8,-3.37 ; 4.3,3.37 3.8,3.37 ; -4.2,-4.7 -4.2,-2.04 -3.4,-2.04 -3.4,-4.7 -4.2,-4.7 ; -4.2,2.04 -4.2,4.7 -3.4,4.7 -3.4,2.04 -4.2,2.04 ; -1,-4.7 -1,-2.04 -0.2,-2.04 -0.2,-4.7 -1,-4.7 ; -1,2.04 -1,4.7 -0.2,4.7 -0.2,2.04 -1,2.04 ; 1.2,-4.7 1.2,-2.04 2,-2.04 2,-4.7 1.2,-4.7 ; 1.2,2.04 1.2,4.7 2,4.7 2,2.04 1.2,2.04 ; 3.4,-4.7 3.4,-2.04 4.2,-2.04 4.2,-4.7 3.4,-4.7 ; 3.4,2.04 3.4,4.7 4.2,4.7 4.2,2.04 3.4,2.04
Mechanical 14:
  lines w0.1: -3.8,-1.6 -3.8,-0.8 ; -3.8,0.8 -3.8,1.6 ; -2.8,-1.6 -1.8,-1.6 ; -2.8,1.6 -1.8,1.6 ; -2.3,-2.1 -2.3,-1.1 ; -0.6,-1.6 -0.6,-0.8 0.7,-0.8 ; -0.6,1.6 -0.6,0.8 0.7,0.8 ; 0.6,-0.4 1.6,-1.2 1.6,-1.6 ; 0.6,0.4 1.6,1.2 1.6,1.6 ; 2.5,-0.8 3.8,-0.8 3.8,-1.6 ; 2.5,0.8 3.8,0.8 3.8,1.6 ; -5.45,-3.75 5.45,-3.75 5.45,3.75 -5.45,3.75 -5.45,-3.75 ; -5.2,-2.5 -5.2,2.5 -4.6,2.5 -4.6,-2.5 -5.2,-2.5 ; -4.2,-0.8 -4.2,0.8 -3.4,0.8 -3.4,-0.8 -4.2,-0.8
Mechanical 15:
  lines w0.05: -5.7,-4.95 -5.7,4.95 5.7,4.95 5.7,-4.95 -5.7,-4.95
3D body "REL_PANASONIC_AGQ200A.stp": height 5.4, standoff 0, extent -5.45,-4.364 5.45,4.364

## REL_PANASONIC_DK1A [mm] "4 Leads Single Side Stable Relay,PANASONIC DK Serie, Body 20mm x 12.5mm"
height 10
pads (4):
  round 1.8 hole 1.1: 1(-8.89,-5.08) 3(1.27,-5.08) 4(8.89,-5.08) 6(-8.89,5.08)
Top Overlay:
  lines w0.2: -10,-5.757 -10,-6.25 -9.457,-6.25 ; -10,-4.403 -10,4.403 ; -10,5.757 -10,6.25 -9.457,6.25 ; -8.323,-6.25 0.703,-6.25 ; -8.323,6.25 10,6.25 10,-6.25 9.457,-6.25 ; 1.837,-6.25 8.323,-6.25 ; -9,-3.25 -9,3.25 -8,3.25 -8,-3.25 -9,-3.25
Mechanical 8:
  lines w0.1: -9.39,-5.08 -8.89,-5.08 ; -9.39,5.08 -8.89,5.08 ; -8.89,-5.58 -8.89,-5.08 ; -8.89,-4.58 -8.89,-5.08 ; -8.89,4.58 -8.89,5.08 ; -8.89,5.58 -8.89,5.08 ; -8.39,-5.08 -8.89,-5.08 ; -8.39,5.08 -8.89,5.08 ; -0.5,0 0,0 ; 0,-0.5 0,0 ; 0,0.5 0,0 ; 0.5,0 0,0 ; 0.77,-5.08 1.27,-5.08 ; 1.27,-5.58 1.27,-5.08 ; 1.27,-4.58 1.27,-5.08 ; 1.77,-5.08 1.27,-5.08 ; 8.39,-5.08 8.89,-5.08 ; 8.89,-5.58 8.89,-5.08 ; 8.89,-4.58 8.89,-5.08 ; 9.39,-5.08 8.89,-5.08
Mechanical 14:
  lines w0.1: -8.89,-6.25 -2.54,-6.25 ; -7.59,-5.08 -5.59,-5.08 -5.59,-2 ; -7.59,5.08 -5.59,5.08 -5.59,2 ; -7.09,-4.08 -6.09,-4.08 ; -7.09,4.08 -6.09,4.08 ; -6.59,3.58 -6.59,4.58 ; 1.27,-3.78 1.27,-1.78 9.473,0.066 ; 8.89,-3.78 8.89,-1.78 ; -10,-6.25 10,-6.25 10,6.25 -10,6.25 -10,-6.25 ; -9,-3.25 -9,3.25 -8,3.25 -8,-3.25 -9,-3.25 ; -6.59,-2 -6.59,2 -4.59,2 -4.59,-2 -6.59,-2 ; 8.39,-1.78 8.89,-1.28 9.39,-1.78 8.39,-1.78
3D body "REL_PANASONIC_DK1A.stp": height 10, standoff -3.5, extent -10,-6.25 10,6.25

## REL_PANASONIC_DS2E [mm] "8 Leads Single Side Stable Relay,PANASONIC DS Serie, Body 20mm x 9.9mm"
height 9.9
pads (8):
  rect 1.4x1.4 hole 0.9: 1(-8.89,-3.81)
  round 1.4 hole 0.9: 4(-1.27,-3.81) 6(3.81,-3.81) 8(8.89,-3.81) 9(8.89,3.81) 11(3.81,3.81) 13(-1.27,3.81) 16(-8.89,3.81)
Top Overlay:
  lines w0.2: -7.874,-3.81 -5.969,-3.81 -5.969,-0.762 ; -7.874,3.81 -5.969,3.81 -5.969,0.762 ; -1.27,-2.54 -1.27,-2.032 6.35,-2.032 6.35,-2.54 5.842,-3.302 ; -1.27,2.54 -1.27,2.032 6.35,2.032 6.35,2.54 5.842,3.302 ; 5.08,-3.81 5.715,-3.81 5.715,-3.048 cw(c5.588,-3.175) 5.715,-3.302 ; 5.08,3.81 5.715,3.81 5.715,3.048 ccw(c5.588,3.175) 5.715,3.302 ; 6.985,-3.302 cw(c7.112,-3.175) 6.985,-3.048 6.985,-3.81 7.62,-3.81 ; 6.985,3.302 ccw(c7.112,3.175) 6.985,3.048 6.985,3.81 7.62,3.81 ; -10,-4.95 10,-4.95 10,4.95 -10,4.95 -10,-4.95 ; -7.239,-0.762 -4.699,-0.762 -4.699,0.762 -7.239,0.762 -7.239,-0.762
  text "+" at -7.6,-3.4 h1.6
  text "-" at -7.5,2.2 h1.6
Mechanical 8:
  lines w0.1: -9.89,-3.81 -8.89,-3.81 ; -9.89,3.81 -8.89,3.81 ; -8.89,-4.81 -8.89,-3.81 ; -8.89,-2.81 -8.89,-3.81 ; -8.89,2.81 -8.89,3.81 ; -8.89,4.81 -8.89,3.81 ; -7.89,-3.81 -8.89,-3.81 ; -7.89,3.81 -8.89,3.81 ; -2.27,-3.81 -1.27,-3.81 ; -2.27,3.81 -1.27,3.81 ; -1.27,-4.81 -1.27,-3.81 ; -1.27,-2.81 -1.27,-3.81 ; -1.27,2.81 -1.27,3.81 ; -1.27,4.81 -1.27,3.81 ; -1,0 0,0 ; -0.27,-3.81 -1.27,-3.81 ; -0.27,3.81 -1.27,3.81 ; 0,-1 0,0 ; 0,1 0,0 ; 1,0 0,0 ; 2.81,-3.81 3.81,-3.81 ; 2.81,3.81 3.81,3.81 ; 3.81,-4.81 3.81,-3.81 ; 3.81,-2.81 3.81,-3.81 ; 3.81,2.81 3.81,3.81 ; 3.81,4.81 3.81,3.81 ; 4.81,-3.81 3.81,-3.81 ; 4.81,3.81 3.81,3.81 ; 7.89,-3.81 8.89,-3.81 ; 7.89,3.81 8.89,3.81 ; 8.89,-4.81 8.89,-3.81 ; 8.89,-2.81 8.89,-3.81 ; 8.89,2.81 8.89,3.81 ; 8.89,4.81 8.89,3.81 ; 9.89,-3.81 8.89,-3.81 ; 9.89,3.81 8.89,3.81
Mechanical 14:
  lines w0.1: -7.874,-3.81 -5.969,-3.81 -5.969,-0.762 ; -7.874,3.81 -5.969,3.81 -5.969,0.762 ; -1.27,-2.54 -1.27,-2.032 6.35,-2.032 6.35,-2.54 5.842,-3.302 ; -1.27,2.54 -1.27,2.032 6.35,2.032 6.35,2.54 5.842,3.302 ; 5.08,-3.81 5.715,-3.81 5.715,-3.048 cw(c5.588,-3.175) 5.715,-3.302 ; 5.08,3.81 5.715,3.81 5.715,3.048 ccw(c5.588,3.175) 5.715,3.302 ; 6.985,-3.302 cw(c7.112,-3.175) 6.985,-3.048 6.985,-3.81 7.62,-3.81 ; 6.985,3.302 ccw(c7.112,3.175) 6.985,3.048 6.985,3.81 7.62,3.81 ; -10,-4.95 10,-4.95 10,4.95 -10,4.95 -10,-4.95 ; -9.19,-3.96 -9.19,-3.66 -8.59,-3.66 -8.59,-3.96 -9.19,-3.96 ; -9.19,3.66 -9.19,3.96 -8.59,3.96 -8.59,3.66 -9.19,3.66 ; -7.239,-0.762 -4.699,-0.762 -4.699,0.762 -7.239,0.762 -7.239,-0.762 ; -1.57,-3.96 -1.57,-3.66 -0.97,-3.66 -0.97,-3.96 -1.57,-3.96 ; -1.57,3.66 -1.57,3.96 -0.97,3.96 -0.97,3.66 -1.57,3.66 ; 3.51,-3.96 3.51,-3.66 4.11,-3.66 4.11,-3.96 3.51,-3.96 ; 3.51,3.66 3.51,3.96 4.11,3.96 4.11,3.66 3.51,3.66 ; 8.59,-3.96 8.59,-3.66 9.19,-3.66 9.19,-3.96 8.59,-3.96 ; 8.59,3.66 8.59,3.96 9.19,3.96 9.19,3.66 8.59,3.66
  text "+" at -7.6,-3.4 h1.6
  text "-" at -7.5,2.2 h1.6
3D body "REL_PANASONIC_DS2E.stp": height 9.9, standoff -3.4, extent -10,-4.95 10,4.95

## REL_PANASONIC_DSP1 [mm] "6 Leads Single Side Stable Relay,PANASONIC DSP Serie, Body 20.2mm x 11mm"
height 10.5
pads (6):
  round 1.9 hole 1.2: 1(8.89,3.81) 5(-1.27,3.81) 8(-8.89,3.81) 9(-8.89,-3.81) 12(-1.27,-3.81) 16(8.89,-3.81)
Top Overlay:
  lines w0.2: -10.1,-4.409 -10.1,-5.5 10.1,-5.5 10.1,-4.409 ; -10.1,-3.211 -10.1,3.211 ; -10.1,4.409 -10.1,5.5 10.1,5.5 10.1,4.409 ; 10.1,-3.211 10.1,3.211
  text "1" at 8.7,1 h1.2
Mechanical 8:
  lines w0.1: -9.39,-3.81 -8.89,-3.81 ; -9.39,3.81 -8.89,3.81 ; -8.89,-4.31 -8.89,-3.81 ; -8.89,-3.31 -8.89,-3.81 ; -8.89,3.31 -8.89,3.81 ; -8.89,4.31 -8.89,3.81 ; -8.39,-3.81 -8.89,-3.81 ; -8.39,3.81 -8.89,3.81 ; -1.77,-3.81 -1.27,-3.81 ; -1.77,3.81 -1.27,3.81 ; -1.27,-4.31 -1.27,-3.81 ; -1.27,-3.31 -1.27,-3.81 ; -1.27,3.31 -1.27,3.81 ; -1.27,4.31 -1.27,3.81 ; -0.77,-3.81 -1.27,-3.81 ; -0.77,3.81 -1.27,3.81 ; -0.5,0 0,0 ; 0,-0.5 0,0 ; 0,0.5 0,0 ; 0.5,0 0,0 ; 8.39,-3.81 8.89,-3.81 ; 8.39,3.81 8.89,3.81 ; 8.89,-4.31 8.89,-3.81 ; 8.89,-3.31 8.89,-3.81 ; 8.89,3.31 8.89,3.81 ; 8.89,4.31 8.89,3.81 ; 9.39,-3.81 8.89,-3.81 ; 9.39,3.81 8.89,3.81
Mechanical 14:
  lines w0.1: -9.504,-1.46 -1.243,-1.46 ; -9.504,-0.032 -1.27,1.46 -1.27,2.46 ; -8.89,-2.46 -8.89,-1.96 ; -8.89,2.46 -8.89,0.96 ; -1.27,-2.46 -1.27,-1.46 ; 4.04,-3.81 5.04,-3.81 ; 4.04,3.81 5.04,3.81 ; 4.54,3.31 4.54,4.31 ; 5.54,-2 5.54,-3.81 7.54,-3.81 ; 5.54,2 5.54,3.81 7.54,3.81 ; -8.89,0.96 -9.39,1.46 -8.39,1.46 -8.89,0.96 ; -10.1,-5.5 -10.1,5.5 10.1,5.5 10.1,-5.5 -10.1,-5.5 ; -9.39,-1.96 -8.89,-1.46 -8.39,-1.96 -9.39,-1.96 ; 4.54,-2 4.54,2 6.54,2 6.54,-2 4.54,-2
3D body "REL_PANASONIC_DSP1.stp": height 10.5, standoff -3.5, extent -10.1,-5.5 10.1,5.5

## REL_PANASONIC_DSP2A-L2 [mm] "8 Leads 2 Coil Latching 2 Form A (DPST) Relay, PANASONIC DSP Serie, Body 20.2mm x 11mm"
height 10.5
pads (8):
  round 1.9 hole 1.2: 1(8.89,3.81) 2(6.35,3.81) 5(-1.27,3.81) 8(-8.89,3.81) 9(-8.89,-3.81) 12(-1.27,-3.81) 15(6.35,-3.81) 16(8.89,-3.81)
Top Overlay:
  lines w0.2: -10.1,-4.409 -10.1,-5.5 10.1,-5.5 10.1,-4.409 ; -10.1,-3.211 -10.1,3.211 ; -10.1,4.409 -10.1,5.5 10.1,5.5 10.1,4.409 ; 10.1,-3.211 10.1,3.211
  text "1" at 8.7,0.3 h1.2
Mechanical 8:
  lines w0.1: -9.39,-3.81 -8.89,-3.81 ; -9.39,3.81 -8.89,3.81 ; -8.89,-4.31 -8.89,-3.81 ; -8.89,-3.31 -8.89,-3.81 ; -8.89,3.31 -8.89,3.81 ; -8.89,4.31 -8.89,3.81 ; -8.39,-3.81 -8.89,-3.81 ; -8.39,3.81 -8.89,3.81 ; -1.77,-3.81 -1.27,-3.81 ; -1.77,3.81 -1.27,3.81 ; -1.27,-4.31 -1.27,-3.81 ; -1.27,-3.31 -1.27,-3.81 ; -1.27,3.31 -1.27,3.81 ; -1.27,4.31 -1.27,3.81 ; -0.77,-3.81 -1.27,-3.81 ; -0.77,3.81 -1.27,3.81 ; -0.5,0 0,0 ; 0,-0.5 0,0 ; 0,0.5 0,0 ; 0.5,0 0,0 ; 5.85,-3.81 6.35,-3.81 ; 5.85,3.81 6.35,3.81 ; 6.35,-4.31 6.35,-3.81 ; 6.35,-3.31 6.35,-3.81 ; 6.35,3.31 6.35,3.81 ; 6.35,4.31 6.35,3.81 ; 6.85,-3.81 6.35,-3.81 ; 6.85,3.81 6.35,3.81 ; 8.39,-3.81 8.89,-3.81 ; 8.39,3.81 8.89,3.81 ; 8.89,-4.31 8.89,-3.81 ; 8.89,-3.31 8.89,-3.81 ; 8.89,3.31 8.89,3.81 ; 8.89,4.31 8.89,3.81 ; 9.39,-3.81 8.89,-3.81 ; 9.39,3.81 8.89,3.81
Mechanical 14:
  lines w0.1: -8.89,-2.81 -8.89,-1.81 ; -8.89,-0.289 -1.27,-1.81 -1.27,-2.81 ; -8.89,0.289 -1.27,1.81 -1.27,2.81 ; -8.89,1.81 -8.89,2.81 ; 4.85,-2.81 5.85,-2.81 ; 4.85,2.81 5.85,2.81 ; 5.35,2.31 5.35,3.31 ; 6.35,-2.7 6.35,-2 ; 6.35,2 6.35,2.7 ; 7.39,-2.81 8.39,-2.81 ; 7.39,2.81 8.39,2.81 ; 7.89,2.31 7.89,3.31 ; 8.89,-2.7 8.89,-2 ; 8.89,2 8.89,2.7 ; -10.1,-5.5 -10.1,5.5 10.1,5.5 10.1,-5.5 -10.1,-5.5 ; -9.39,-1.81 -8.89,-1.31 -8.39,-1.81 -9.39,-1.81 ; -9.39,1.81 -8.89,1.31 -8.39,1.81 -9.39,1.81 ; 5.6,-2 5.6,2 7.1,2 7.1,-2 5.6,-2 ; 8.14,-2 8.14,2 9.64,2 9.64,-2 8.14,-2
3D body "REL_PANASONIC_DSP2-L2.stp": height 10.5, standoff -3.5, extent -10.1,-5.5 10.1,5.5

## REL_PANASONIC_TXS2SS [mm] "8 Leads Single Side Stable SMD Relay, PANASONIC TX-S Serie, Body 15mm x 7.4mm x 10mm H"
height 10
pads (8):
  rect 1x2.16 smd: 1(-6.35,-3.12) 3(-1.27,-3.12) 4(1.27,-3.12) 5(3.81,-3.12) 8(3.81,3.12) 9(1.27,3.12) 10(-1.27,3.12) 12(-6.35,3.12)
Top Overlay:
  lines w0.2: -7.5,-1.7 -5.5,-1.7 cw(c-5.5,-2.2) -5,-2.2 -5,-3.7 ; -7.5,2.3 -7.15,2.3 ; -7.15,-3.7 -7.2,-3.7 cw(c-7.2,-3.4) -7.5,-3.4 -7.5,3.4 cw(c-7.2,3.4) -7.2,3.7 -7.15,3.7 ; -5.55,-3.7 -2.07,-3.7 ; -5.55,2.3 -5.5,2.3 ccw(c-5.5,2.8) -5,2.8 -5,3.7 ; -5.55,3.7 -2.07,3.7 ; -0.47,-3.7 0.47,-3.7 ; -0.47,3.7 0.47,3.7 ; 2.07,-3.7 3.01,-3.7 ; 2.07,3.7 3.01,3.7 ; 4.61,-3.7 5.55,-3.7 ; 4.61,3.7 5.55,3.7 ; 7.15,-3.7 7.2,-3.7 ccw(c7.2,-3.4) 7.5,-3.4 7.5,3.4 ccw(c7.2,3.4) 7.2,3.7 7.15,3.7
Mechanical 8:
  lines w0.1: -6.85,-3.12 -6.35,-3.12 ; -6.85,3.12 -6.35,3.12 ; -6.35,-3.62 -6.35,-3.12 ; -6.35,-2.62 -6.35,-3.12 ; -6.35,2.62 -6.35,3.12 ; -6.35,3.62 -6.35,3.12 ; -5.85,-3.12 -6.35,-3.12 ; -5.85,3.12 -6.35,3.12 ; -1.77,-3.12 -1.27,-3.12 ; -1.77,3.12 -1.27,3.12 ; -1.27,-3.62 -1.27,-3.12 ; -1.27,-2.62 -1.27,-3.12 ; -1.27,2.62 -1.27,3.12 ; -1.27,3.62 -1.27,3.12 ; -0.77,-3.12 -1.27,-3.12 ; -0.77,3.12 -1.27,3.12 ; -0.5,0 0,0 ; 0,-0.5 0,0 ; 0,0.5 0,0 ; 0.5,0 0,0 ; 0.77,-3.12 1.27,-3.12 ; 0.77,3.12 1.27,3.12 ; 1.27,-3.62 1.27,-3.12 ; 1.27,-2.62 1.27,-3.12 ; 1.27,2.62 1.27,3.12 ; 1.27,3.62 1.27,3.12 ; 1.77,-3.12 1.27,-3.12 ; 1.77,3.12 1.27,3.12 ; 3.31,-3.12 3.81,-3.12 ; 3.31,3.12 3.81,3.12 ; 3.81,-3.62 3.81,-3.12 ; 3.81,-2.62 3.81,-3.12 ; 3.81,2.62 3.81,3.12 ; 3.81,3.62 3.81,3.12 ; 4.31,-3.12 3.81,-3.12 ; 4.31,3.12 3.81,3.12 ; 5.85,-3.12 6.35,-3.12 ; 5.85,3.12 6.35,3.12 ; 6.35,-3.62 6.35,-3.12 ; 6.35,-2.62 6.35,-3.12 ; 6.35,2.62 6.35,3.12 ; 6.35,3.62 6.35,3.12 ; 6.85,-3.12 6.35,-3.12 ; 6.85,3.12 6.35,3.12 ; -6.85,-4.2 -5.85,-4.2 -5.85,-2.04 -6.85,-2.04 -6.85,-4.2 ; -6.85,2.04 -5.85,2.04 -5.85,4.2 -6.85,4.2 -6.85,2.04 ; -1.77,-4.2 -0.77,-4.2 -0.77,-2.04 -1.77,-2.04 -1.77,-4.2 ; -1.77,2.04 -0.77,2.04 -0.77,4.2 -1.77,4.2 -1.77,2.04 ; 0.77,-4.2 1.77,-4.2 1.77,-2.04 0.77,-2.04 0.77,-4.2 ; 0.77,2.04 1.77,2.04 1.77,4.2 0.77,4.2 0.77,2.04 ; 3.31,-4.2 4.31,-4.2 4.31,-2.04 3.31,-2.04 3.31,-4.2 ; 3.31,2.04 4.31,2.04 4.31,4.2 3.31,4.2 3.31,2.04 ; 5.85,-4.2 6.85,-4.2 6.85,-2.04 5.85,-2.04 5.85,-4.2 ; 5.85,2.04 6.85,2.04 6.85,4.2 5.85,4.2 5.85,2.04
Mechanical 14:
  circle w0.1: c-6.4,-2.6 r0.7
  lines w0.1: -7.5,-1.7 -5.5,-1.7 cw(c-5.5,-2.2) -5,-2.2 -5,-3.7 ; -7.5,2.3 -5.5,2.3 ccw(c-5.5,2.8) -5,2.8 -5,3.7 ; -7.5,-3.4 ccw(c-7.2,-3.4) -7.2,-3.7 7.2,-3.7 ccw(c7.2,-3.4) 7.5,-3.4 7.5,3.4 ccw(c7.2,3.4) 7.2,3.7 -7.2,3.7 ccw(c-7.2,3.4) -7.5,3.4 -7.5,-3.4
Mechanical 15:
  lines w0.1: -7.75,-4.45 7.75,-4.45 7.75,4.45 -7.75,4.45 -7.75,-4.45
3D body "REL_PANASONIC_TXS2SS.stp": height 10, standoff 0, extent -7.5,-3.7 7.5,3.7

## REL_PICKERING_107-2-C [mm] "8 Leads, Body 24.1 x 4.8mm, 2 Form C Mini-SIL Reed Relay 107 Serie"
height 10.2
pads (8):
  rect 1.5x1.5 hole 0.8: 1(-10.16,0)
  round 1.5 hole 0.8: 2(-7.62,0) 3(-5.08,0) 4(-2.54,0) 5(0,0) 7(5.08,0) 8(7.62,0) 9(10.16,0)
Top Overlay:
  circle w0.2: c-11.225,-1.575 r0.4
  lines w0.2: -12.05,-2.4 12.05,-2.4 12.05,2.4 -12.05,2.4 -12.05,-2.4
Mechanical 8:
  lines w0.1: -10.66,0 -10.16,0 ; -10.16,-0.5 -10.16,0 ; -10.16,0.5 -10.16,0 ; -9.66,0 -10.16,0 ; -8.12,0 -7.62,0 ; -7.62,-0.5 -7.62,0 ; -7.62,0.5 -7.62,0 ; -7.12,0 -7.62,0 ; -5.58,0 -5.08,0 ; -5.08,-0.5 -5.08,0 ; -5.08,0.5 -5.08,0 ; -4.58,0 -5.08,0 ; -3.04,0 -2.54,0 ; -2.54,-0.5 -2.54,0 ; -2.54,0.5 -2.54,0 ; -2.04,0 -2.54,0 ; -0.5,0 0,0 ; 0,-0.5 0,0 ; 0,0.5 0,0 ; 0.5,0 0,0 ; 4.58,0 5.08,0 ; 5.08,-0.5 5.08,0 ; 5.08,0.5 5.08,0 ; 5.58,0 5.08,0 ; 7.12,0 7.62,0 ; 7.62,-0.5 7.62,0 ; 7.62,0.5 7.62,0 ; 8.12,0 7.62,0 ; 9.66,0 10.16,0 ; 10.16,-0.5 10.16,0 ; 10.16,0.5 10.16,0 ; 10.66,0 10.16,0
Mechanical 14:
  circle w0.1: c-8.89,-1.4 r0.5
  lines w0.1: -11.034,-2.4 -11.034,2.4 ; 11.034,-2.4 11.034,2.4 ; -12.05,-2.4 12.05,-2.4 12.05,2.4 -12.05,2.4 -12.05,-2.4
3D body "REL_PICKERING_107-2-C.stp": height 10.2, standoff -3.29, extent -12.05,-2.4 12.05,2.4

## REL_PICKERING_113-1-C [mm] "5 Leads, Body 12.5 x 3.7mm, 1 Form C Mini-SIL Reed Relay 113 Serie"
height 6.6
pads (5):
  rect 1.5x1.5 hole 0.8: 1(-5,0)
  round 1.5 hole 0.8: 2(-3,0) 3(-1,0) 4(1,0) 6(5,0)
Top Overlay:
  lines w0.2: -6.25,-1.85 6.25,-1.85 6.25,1.85 -6.25,1.85 -6.25,-1.85
Mechanical 8:
  lines w0.1: -5.5,0 -5,0 ; -5,-0.5 -5,0 ; -5,0.5 -5,0 ; -4.5,0 -5,0 ; -3.5,0 -3,0 ; -3,-0.5 -3,0 ; -3,0.5 -3,0 ; -2.5,0 -3,0 ; -1.5,0 -1,0 ; -1,-0.5 -1,0 ; -1,0.5 -1,0 ; -0.5,0 -1,0 ; 0,-0.5 0,0 0,0.5 ; 0.5,0 1,0 ; 1,-0.5 1,0 ; 1,0.5 1,0 ; 1.5,0 1,0 ; 4.5,0 5,0 ; 5,-0.5 5,0 ; 5,0.5 5,0 ; 5.5,0 5,0
Mechanical 14:
  circle w0.1: c-5.25,-0.85 r0.5
  lines w0.1: -6.25,-1.85 6.25,-1.85 6.25,1.85 -6.25,1.85 -6.25,-1.85
3D body "REL_PICKERING_113-1-C.stp": height 6.6, standoff -3.3, extent -6.25,-1.85 6.25,1.85

## REL_PICKERING_116-1-A [mm] "4 Leads, Body 6.86 x 3.81mm, 1Form A SIL Reed Relay, 116 Serie"
height 12.6
pads (4):
  rect 1.2x1.4 hole 0.7: 1(-2.286,0)
  oval 1.2x1.4 hole 0.7: 2(-0.762,0) 3(0.762,0) 4(2.286,0)
Top Overlay:
  lines w0.2: -2.389,-1.905 -2.389,-1 ; -2.389,1 -2.389,1.905 ; -3.43,-1.905 3.43,-1.905 3.43,1.905 -3.43,1.905 -3.43,-1.905
Mechanical 8:
  lines w0.1: -2.786,0 -2.286,0 ; -2.286,-0.5 -2.286,0 ; -2.286,0.5 -2.286,0 ; -1.786,0 -2.286,0 ; -1.262,0 -0.762,0 ; -0.762,-0.5 -0.762,0 ; -0.762,0.5 -0.762,0 ; -0.5,0 0,0 ; -0.262,0 -0.762,0 ; 0,-0.5 0,0 ; 0,0.5 0,0 ; 0.262,0 0.762,0 ; 0.5,0 0,0 ; 0.762,-0.5 0.762,0 ; 0.762,0.5 0.762,0 ; 1.262,0 0.762,0 ; 1.786,0 2.286,0 ; 2.286,-0.5 2.286,0 ; 2.286,0.5 2.286,0 ; 2.786,0 2.286,0
Mechanical 14:
  lines w0.1: -2.389,-1.905 -2.389,1.905 ; -3.43,-1.905 3.43,-1.905 3.43,1.905 -3.43,1.905 -3.43,-1.905
3D body "REL_PICKERING_116-1-A.stp": height 12.6, standoff -3.17, extent -3.43,-1.905 3.43,1.905